# Altium footprint library CGA_Sq_127P.PcbLib: 3 footprints
Each footprint in its own frame and in the unit in brackets; x right, y up, seen from the top. Pads: shape width x height; smd on the part's side, far side on the other; paste and mask are expansions set on the pad; w line width, h text height; cw(c..) or ccw(c..) is an arc to the next point about the centre after c.
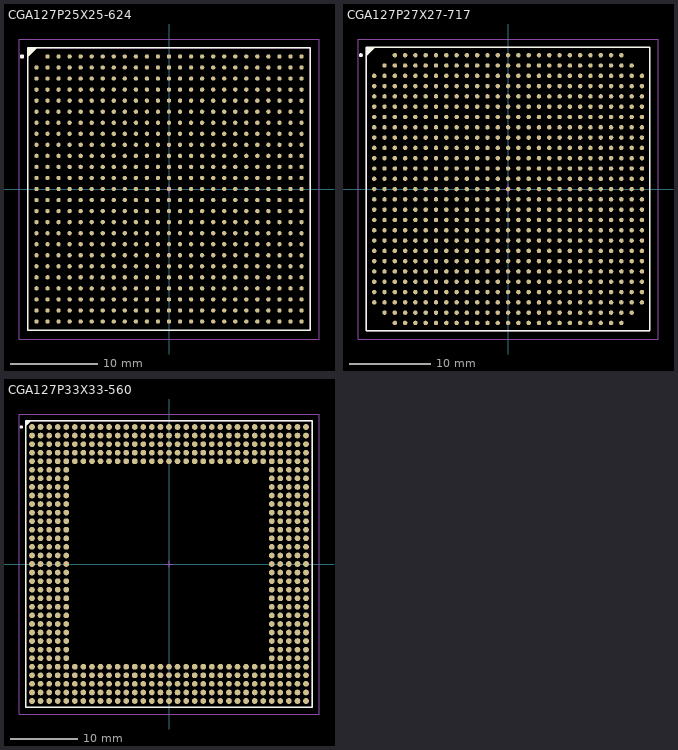
[diagram p0: the footprints below, top view; thin cyan lines are the x and y axes]

## CGA127P25X25-624 [mm] "CGA, 624-Leads, Body 32.5x32.5mm, Pitch 1.27mm"
height 5.37
pads (624):
  round 0.5 smd: A2(-13.97,15.24) A3(-12.7,15.24) A4(-11.43,15.24) A5(-10.16,15.24) A6(-8.89,15.24) A7(-7.62,15.24) A8(-6.35,15.24) A9(-5.08,15.24) A10(-3.81,15.24) A11(-2.54,15.24) A12(-1.27,15.24) A13(0,15.24) A14(1.27,15.24) A15(2.54,15.24) A16(3.81,15.24) A17(5.08,15.24) A18(6.35,15.24) A19(7.62,15.24) A20(8.89,15.24) A21(10.16,15.24) A22(11.43,15.24) A23(12.7,15.24) A24(13.97,15.24) A25(15.24,15.24) AA1(-15.24,-10.16) AA2(-13.97,-10.16) AA3(-12.7,-10.16) AA4(-11.43,-10.16) AA5(-10.16,-10.16) AA6(-8.89,-10.16) AA7(-7.62,-10.16) AA8(-6.35,-10.16) AA9(-5.08,-10.16) AA10(-3.81,-10.16) AA11(-2.54,-10.16) AA12(-1.27,-10.16) AA13(0,-10.16) AA14(1.27,-10.16) AA15(2.54,-10.16) AA16(3.81,-10.16) AA17(5.08,-10.16) AA18(6.35,-10.16) AA19(7.62,-10.16) AA20(8.89,-10.16) AA21(10.16,-10.16) AA22(11.43,-10.16) AA23(12.7,-10.16) AA24(13.97,-10.16) AA25(15.24,-10.16) AB1(-15.24,-11.43) AB2(-13.97,-11.43) AB3(-12.7,-11.43) AB4(-11.43,-11.43) AB5(-10.16,-11.43) AB6(-8.89,-11.43) AB7(-7.62,-11.43) AB8(-6.35,-11.43) AB9(-5.08,-11.43) AB10(-3.81,-11.43) AB11(-2.54,-11.43) AB12(-1.27,-11.43) AB13(0,-11.43) AB14(1.27,-11.43) AB15(2.54,-11.43) AB16(3.81,-11.43) AB17(5.08,-11.43) AB18(6.35,-11.43) AB19(7.62,-11.43) AB20(8.89,-11.43) AB21(10.16,-11.43) AB22(11.43,-11.43) AB23(12.7,-11.43) AB24(13.97,-11.43) AB25(15.24,-11.43) AC1(-15.24,-12.7) AC2(-13.97,-12.7) AC3(-12.7,-12.7) AC4(-11.43,-12.7) AC5(-10.16,-12.7) AC6(-8.89,-12.7) AC7(-7.62,-12.7) AC8(-6.35,-12.7) AC9(-5.08,-12.7) AC10(-3.81,-12.7) AC11(-2.54,-12.7) AC12(-1.27,-12.7) AC13(0,-12.7) AC14(1.27,-12.7) AC15(2.54,-12.7) AC16(3.81,-12.7) AC17(5.08,-12.7) AC18(6.35,-12.7) AC19(7.62,-12.7) AC20(8.89,-12.7) AC21(10.16,-12.7) AC22(11.43,-12.7) AC23(12.7,-12.7) AC24(13.97,-12.7) AC25(15.24,-12.7) AD1(-15.24,-13.97) AD2(-13.97,-13.97) AD3(-12.7,-13.97) AD4(-11.43,-13.97) AD5(-10.16,-13.97) AD6(-8.89,-13.97) AD7(-7.62,-13.97) AD8(-6.35,-13.97) AD9(-5.08,-13.97) AD10(-3.81,-13.97) AD11(-2.54,-13.97) AD12(-1.27,-13.97) AD13(0,-13.97) AD14(1.27,-13.97) AD15(2.54,-13.97) AD16(3.81,-13.97) AD17(5.08,-13.97) AD18(6.35,-13.97) AD19(7.62,-13.97) AD20(8.89,-13.97) AD21(10.16,-13.97) AD22(11.43,-13.97) AD23(12.7,-13.97) AD24(13.97,-13.97) AD25(15.24,-13.97) AE1(-15.24,-15.24) AE2(-13.97,-15.24) AE3(-12.7,-15.24) AE4(-11.43,-15.24) AE5(-10.16,-15.24) AE6(-8.89,-15.24) AE7(-7.62,-15.24) AE8(-6.35,-15.24) AE9(-5.08,-15.24) AE10(-3.81,-15.24) AE11(-2.54,-15.24) AE12(-1.27,-15.24) AE13(0,-15.24) AE14(1.27,-15.24) AE15(2.54,-15.24) AE16(3.81,-15.24) AE17(5.08,-15.24) AE18(6.35,-15.24) AE19(7.62,-15.24) AE20(8.89,-15.24) AE21(10.16,-15.24) AE22(11.43,-15.24) AE23(12.7,-15.24) AE24(13.97,-15.24) AE25(15.24,-15.24) B1(-15.24,13.97) B2(-13.97,13.97) B3(-12.7,13.97) B4(-11.43,13.97) B5(-10.16,13.97) B6(-8.89,13.97) B7(-7.62,13.97) B8(-6.35,13.97) B9(-5.08,13.97) B10(-3.81,13.97) B11(-2.54,13.97) B12(-1.27,13.97) B13(0,13.97) B14(1.27,13.97) B15(2.54,13.97) B16(3.81,13.97) B17(5.08,13.97) B18(6.35,13.97) B19(7.62,13.97) B20(8.89,13.97) B21(10.16,13.97) B22(11.43,13.97) B23(12.7,13.97) B24(13.97,13.97) B25(15.24,13.97) C1(-15.24,12.7) C2(-13.97,12.7) C3(-12.7,12.7) C4(-11.43,12.7) C5(-10.16,12.7) C6(-8.89,12.7) C7(-7.62,12.7) C8(-6.35,12.7) C9(-5.08,12.7) C10(-3.81,12.7) C11(-2.54,12.7) C12(-1.27,12.7) C13(0,12.7) C14(1.27,12.7) C15(2.54,12.7) C16(3.81,12.7) C17(5.08,12.7) C18(6.35,12.7) C19(7.62,12.7) C20(8.89,12.7) C21(10.16,12.7) C22(11.43,12.7) C23(12.7,12.7) C24(13.97,12.7) C25(15.24,12.7) D1(-15.24,11.43) D2(-13.97,11.43) D3(-12.7,11.43) D4(-11.43,11.43) D5(-10.16,11.43) D6(-8.89,11.43) D7(-7.62,11.43) D8(-6.35,11.43) D9(-5.08,11.43) D10(-3.81,11.43) D11(-2.54,11.43) D12(-1.27,11.43) D13(0,11.43) D14(1.27,11.43) D15(2.54,11.43) D16(3.81,11.43) D17(5.08,11.43) D18(6.35,11.43) D19(7.62,11.43) D20(8.89,11.43) D21(10.16,11.43) D22(11.43,11.43) D23(12.7,11.43) D24(13.97,11.43) D25(15.24,11.43) E1(-15.24,10.16) E2(-13.97,10.16) E3(-12.7,10.16) E4(-11.43,10.16) E5(-10.16,10.16) E6(-8.89,10.16) E7(-7.62,10.16) E8(-6.35,10.16) E9(-5.08,10.16) E10(-3.81,10.16) E11(-2.54,10.16) E12(-1.27,10.16) E13(0,10.16) E14(1.27,10.16) E15(2.54,10.16) E16(3.81,10.16) E17(5.08,10.16) E18(6.35,10.16) E19(7.62,10.16) E20(8.89,10.16) E21(10.16,10.16) E22(11.43,10.16) E23(12.7,10.16) E24(13.97,10.16) E25(15.24,10.16) F1(-15.24,8.89) F2(-13.97,8.89) F3(-12.7,8.89) F4(-11.43,8.89) F5(-10.16,8.89) F6(-8.89,8.89) F7(-7.62,8.89) F8(-6.35,8.89) F9(-5.08,8.89) F10(-3.81,8.89) F11(-2.54,8.89) F12(-1.27,8.89) F13(0,8.89) F14(1.27,8.89) F15(2.54,8.89) F16(3.81,8.89) F17(5.08,8.89) F18(6.35,8.89) F19(7.62,8.89) F20(8.89,8.89) F21(10.16,8.89) F22(11.43,8.89) F23(12.7,8.89) F24(13.97,8.89) F25(15.24,8.89) G1(-15.24,7.62) G2(-13.97,7.62) G3(-12.7,7.62) G4(-11.43,7.62) G5(-10.16,7.62) G6(-8.89,7.62) G7(-7.62,7.62) G8(-6.35,7.62) G9(-5.08,7.62) G10(-3.81,7.62) G11(-2.54,7.62) G12(-1.27,7.62) G13(0,7.62) G14(1.27,7.62) G15(2.54,7.62) G16(3.81,7.62) G17(5.08,7.62) G18(6.35,7.62) G19(7.62,7.62) G20(8.89,7.62) G21(10.16,7.62) G22(11.43,7.62) G23(12.7,7.62) G24(13.97,7.62) G25(15.24,7.62) H1(-15.24,6.35) H2(-13.97,6.35) H3(-12.7,6.35) H4(-11.43,6.35) H5(-10.16,6.35) H6(-8.89,6.35) H7(-7.62,6.35) H8(-6.35,6.35) H9(-5.08,6.35) H10(-3.81,6.35) H11(-2.54,6.35) H12(-1.27,6.35) H13(0,6.35) H14(1.27,6.35) H15(2.54,6.35) H16(3.81,6.35) H17(5.08,6.35) H18(6.35,6.35) H19(7.62,6.35) H20(8.89,6.35) H21(10.16,6.35) H22(11.43,6.35) H23(12.7,6.35) H24(13.97,6.35) H25(15.24,6.35) J1(-15.24,5.08) J2(-13.97,5.08) J3(-12.7,5.08) J4(-11.43,5.08) J5(-10.16,5.08) J6(-8.89,5.08) J7(-7.62,5.08) J8(-6.35,5.08) J9(-5.08,5.08) J10(-3.81,5.08) J11(-2.54,5.08) J12(-1.27,5.08) J13(0,5.08) J14(1.27,5.08) J15(2.54,5.08) J16(3.81,5.08) J17(5.08,5.08) J18(6.35,5.08) J19(7.62,5.08) J20(8.89,5.08) J21(10.16,5.08) J22(11.43,5.08) J23(12.7,5.08) J24(13.97,5.08) J25(15.24,5.08) K1(-15.24,3.81) K2(-13.97,3.81) K3(-12.7,3.81) K4(-11.43,3.81) K5(-10.16,3.81) K6(-8.89,3.81) K7(-7.62,3.81) K8(-6.35,3.81) K9(-5.08,3.81) K10(-3.81,3.81) K11(-2.54,3.81) K12(-1.27,3.81) K13(0,3.81) K14(1.27,3.81) K15(2.54,3.81) K16(3.81,3.81) K17(5.08,3.81) K18(6.35,3.81) K19(7.62,3.81) K20(8.89,3.81) K21(10.16,3.81) K22(11.43,3.81) K23(12.7,3.81) K24(13.97,3.81) K25(15.24,3.81) L1(-15.24,2.54) L2(-13.97,2.54) L3(-12.7,2.54) L4(-11.43,2.54) L5(-10.16,2.54) L6(-8.89,2.54) L7(-7.62,2.54) L8(-6.35,2.54) L9(-5.08,2.54) L10(-3.81,2.54) L11(-2.54,2.54) L12(-1.27,2.54) L13(0,2.54) L14(1.27,2.54) L15(2.54,2.54) L16(3.81,2.54) L17(5.08,2.54) L18(6.35,2.54) L19(7.62,2.54) L20(8.89,2.54) L21(10.16,2.54) L22(11.43,2.54) L23(12.7,2.54) L24(13.97,2.54) L25(15.24,2.54) M1(-15.24,1.27) M2(-13.97,1.27) M3(-12.7,1.27) M4(-11.43,1.27) M5(-10.16,1.27) M6(-8.89,1.27) M7(-7.62,1.27) M8(-6.35,1.27) M9(-5.08,1.27) M10(-3.81,1.27) M11(-2.54,1.27) M12(-1.27,1.27) M13(0,1.27) M14(1.27,1.27) M15(2.54,1.27) M16(3.81,1.27) M17(5.08,1.27) M18(6.35,1.27) M19(7.62,1.27) M20(8.89,1.27) M21(10.16,1.27) M22(11.43,1.27) M23(12.7,1.27) M24(13.97,1.27) M25(15.24,1.27) N1(-15.24,0) N2(-13.97,0) N3(-12.7,0) N4(-11.43,0) N5(-10.16,0) N6(-8.89,0) N7(-7.62,0) N8(-6.35,0) N9(-5.08,0) N10(-3.81,0) N11(-2.54,0) N12(-1.27,0) N13(0,0) N14(1.27,0) N15(2.54,0) N16(3.81,0) N17(5.08,0) N18(6.35,0) N19(7.62,0) N20(8.89,0) N21(10.16,0) N22(11.43,0) N23(12.7,0) N24(13.97,0) N25(15.24,0) P1(-15.24,-1.27) P2(-13.97,-1.27) P3(-12.7,-1.27) P4(-11.43,-1.27) P5(-10.16,-1.27) P6(-8.89,-1.27) P7(-7.62,-1.27) P8(-6.35,-1.27) P9(-5.08,-1.27) P10(-3.81,-1.27) P11(-2.54,-1.27) P12(-1.27,-1.27) P13(0,-1.27) P14(1.27,-1.27) P15(2.54,-1.27) P16(3.81,-1.27) P17(5.08,-1.27) P18(6.35,-1.27) P19(7.62,-1.27) P20(8.89,-1.27) P21(10.16,-1.27) P22(11.43,-1.27) P23(12.7,-1.27) P24(13.97,-1.27) P25(15.24,-1.27) R1(-15.24,-2.54) R2(-13.97,-2.54) R3(-12.7,-2.54) R4(-11.43,-2.54) R5(-10.16,-2.54) R6(-8.89,-2.54) R7(-7.62,-2.54) R8(-6.35,-2.54) R9(-5.08,-2.54) R10(-3.81,-2.54) R11(-2.54,-2.54) R12(-1.27,-2.54) R13(0,-2.54) R14(1.27,-2.54) R15(2.54,-2.54) R16(3.81,-2.54) R17(5.08,-2.54) R18(6.35,-2.54) R19(7.62,-2.54) R20(8.89,-2.54) R21(10.16,-2.54) R22(11.43,-2.54) R23(12.7,-2.54) R24(13.97,-2.54) R25(15.24,-2.54) T1(-15.24,-3.81) T2(-13.97,-3.81) T3(-12.7,-3.81) T4(-11.43,-3.81) T5(-10.16,-3.81) T6(-8.89,-3.81) T7(-7.62,-3.81) T8(-6.35,-3.81) T9(-5.08,-3.81) T10(-3.81,-3.81) T11(-2.54,-3.81) T12(-1.27,-3.81) T13(0,-3.81) T14(1.27,-3.81) T15(2.54,-3.81) T16(3.81,-3.81) T17(5.08,-3.81) T18(6.35,-3.81) T19(7.62,-3.81) T20(8.89,-3.81) T21(10.16,-3.81) T22(11.43,-3.81) T23(12.7,-3.81) T24(13.97,-3.81) T25(15.24,-3.81) U1(-15.24,-5.08) U2(-13.97,-5.08) U3(-12.7,-5.08) U4(-11.43,-5.08) U5(-10.16,-5.08) U6(-8.89,-5.08) U7(-7.62,-5.08) U8(-6.35,-5.08) U9(-5.08,-5.08) U10(-3.81,-5.08) U11(-2.54,-5.08) U12(-1.27,-5.08) U13(0,-5.08) U14(1.27,-5.08) U15(2.54,-5.08) U16(3.81,-5.08) U17(5.08,-5.08) U18(6.35,-5.08) U19(7.62,-5.08) U20(8.89,-5.08) U21(10.16,-5.08) U22(11.43,-5.08) U23(12.7,-5.08) U24(13.97,-5.08) U25(15.24,-5.08) V1(-15.24,-6.35) V2(-13.97,-6.35) V3(-12.7,-6.35) V4(-11.43,-6.35) V5(-10.16,-6.35) V6(-8.89,-6.35) V7(-7.62,-6.35) V8(-6.35,-6.35) V9(-5.08,-6.35) V10(-3.81,-6.35) V11(-2.54,-6.35) V12(-1.27,-6.35) V13(0,-6.35) V14(1.27,-6.35) V15(2.54,-6.35) V16(3.81,-6.35) V17(5.08,-6.35) V18(6.35,-6.35) V19(7.62,-6.35) V20(8.89,-6.35) V21(10.16,-6.35) V22(11.43,-6.35) V23(12.7,-6.35) V24(13.97,-6.35) V25(15.24,-6.35) W1(-15.24,-7.62) W2(-13.97,-7.62) W3(-12.7,-7.62) W4(-11.43,-7.62) W5(-10.16,-7.62) W6(-8.89,-7.62) W7(-7.62,-7.62) W8(-6.35,-7.62) W9(-5.08,-7.62) W10(-3.81,-7.62) W11(-2.54,-7.62) W12(-1.27,-7.62) W13(0,-7.62) W14(1.27,-7.62) W15(2.54,-7.62) W16(3.81,-7.62) W17(5.08,-7.62) W18(6.35,-7.62) W19(7.62,-7.62) W20(8.89,-7.62) W21(10.16,-7.62) W22(11.43,-7.62) W23(12.7,-7.62) W24(13.97,-7.62) W25(15.24,-7.62) Y1(-15.24,-8.89) Y2(-13.97,-8.89) Y3(-12.7,-8.89) Y4(-11.43,-8.89) Y5(-10.16,-8.89) Y6(-8.89,-8.89) Y7(-7.62,-8.89) Y8(-6.35,-8.89) Y9(-5.08,-8.89) Y10(-3.81,-8.89) Y11(-2.54,-8.89) Y12(-1.27,-8.89) Y13(0,-8.89) Y14(1.27,-8.89) Y15(2.54,-8.89) Y16(3.81,-8.89) Y17(5.08,-8.89) Y18(6.35,-8.89) Y19(7.62,-8.89) Y20(8.89,-8.89) Y21(10.16,-8.89) Y22(11.43,-8.89) Y23(12.7,-8.89) Y24(13.97,-8.89) Y25(15.24,-8.89)
Top Overlay:
  circle w0.25: c-16.9,15.24 r0.125
  region: -15.25,16.25 -16.25,15.25 -16.25,16.25
  lines w0.2: -16.25,15.25 -15.25,16.25 ; -16.25,-16.25 16.25,-16.25 16.25,16.25 -16.25,16.25 -16.25,-16.25
Mechanical 13:
  lines w0.1: -16.25,-16.25 16.25,-16.25 16.25,16.25 -16.25,16.25 -16.25,-16.25
Mechanical 15:
  lines w0.1: -0.5,0 0.5,0 ; 0,-0.5 0,0.5 ; -17.25,-17.25 17.25,-17.25 17.25,17.25 -17.25,17.25 -17.25,-17.25
3D body: height 5.37, standoff 0, extent -16.25,-16.25 16.25,16.25

## CGA127P27X27-717 [mm] "729-Pin Ceramic Column Grid Array 1.27 mm Pitch"
height 5.5
pads (717):
  round 0.55 smd: A3(-13.97,16.51) A4(-12.7,16.51) A5(-11.43,16.51) A6(-10.16,16.51) A7(-8.89,16.51) A8(-7.62,16.51) A9(-6.35,16.51) A10(-5.08,16.51) A11(-3.81,16.51) A12(-2.54,16.51) A13(-1.27,16.51) A14(0,16.51) A15(1.27,16.51) A16(2.54,16.51) A17(3.81,16.51) A18(5.08,16.51) A19(6.35,16.51) A20(7.62,16.51) A21(8.89,16.51) A22(10.16,16.51) A23(11.43,16.51) A24(12.7,16.51) A25(13.97,16.51) AA1(-16.51,-8.89) AA2(-15.24,-8.89) AA3(-13.97,-8.89) AA4(-12.7,-8.89) AA5(-11.43,-8.89) AA6(-10.16,-8.89) AA7(-8.89,-8.89) AA8(-7.62,-8.89) AA9(-6.35,-8.89) AA10(-5.08,-8.89) AA11(-3.81,-8.89) AA12(-2.54,-8.89) AA13(-1.27,-8.89) AA14(0,-8.89) AA15(1.27,-8.89) AA16(2.54,-8.89) AA17(3.81,-8.89) AA18(5.08,-8.89) AA19(6.35,-8.89) AA20(7.62,-8.89) AA21(8.89,-8.89) AA22(10.16,-8.89) AA23(11.43,-8.89) AA24(12.7,-8.89) AA25(13.97,-8.89) AA26(15.24,-8.89) AA27(16.51,-8.89) AB1(-16.51,-10.16) AB2(-15.24,-10.16) AB3(-13.97,-10.16) AB4(-12.7,-10.16) AB5(-11.43,-10.16) AB6(-10.16,-10.16) AB7(-8.89,-10.16) AB8(-7.62,-10.16) AB9(-6.35,-10.16) AB10(-5.08,-10.16) AB11(-3.81,-10.16) AB12(-2.54,-10.16) AB13(-1.27,-10.16) AB14(0,-10.16) AB15(1.27,-10.16) AB16(2.54,-10.16) AB17(3.81,-10.16) AB18(5.08,-10.16) AB19(6.35,-10.16) AB20(7.62,-10.16) AB21(8.89,-10.16) AB22(10.16,-10.16) AB23(11.43,-10.16) AB24(12.7,-10.16) AB25(13.97,-10.16) AB26(15.24,-10.16) AB27(16.51,-10.16) AC1(-16.51,-11.43) AC2(-15.24,-11.43) AC3(-13.97,-11.43) AC4(-12.7,-11.43) AC5(-11.43,-11.43) AC6(-10.16,-11.43) AC7(-8.89,-11.43) AC8(-7.62,-11.43) AC9(-6.35,-11.43) AC10(-5.08,-11.43) AC11(-3.81,-11.43) AC12(-2.54,-11.43) AC13(-1.27,-11.43) AC14(0,-11.43) AC15(1.27,-11.43) AC16(2.54,-11.43) AC17(3.81,-11.43) AC18(5.08,-11.43) AC19(6.35,-11.43) AC20(7.62,-11.43) AC21(8.89,-11.43) AC22(10.16,-11.43) AC23(11.43,-11.43) AC24(12.7,-11.43) AC25(13.97,-11.43) AC26(15.24,-11.43) AC27(16.51,-11.43) AD1(-16.51,-12.7) AD2(-15.24,-12.7) AD3(-13.97,-12.7) AD4(-12.7,-12.7) AD5(-11.43,-12.7) AD6(-10.16,-12.7) AD7(-8.89,-12.7) AD8(-7.62,-12.7) AD9(-6.35,-12.7) AD10(-5.08,-12.7) AD11(-3.81,-12.7) AD12(-2.54,-12.7) AD13(-1.27,-12.7) AD14(0,-12.7) AD15(1.27,-12.7) AD16(2.54,-12.7) AD17(3.81,-12.7) AD18(5.08,-12.7) AD19(6.35,-12.7) AD20(7.62,-12.7) AD21(8.89,-12.7) AD22(10.16,-12.7) AD23(11.43,-12.7) AD24(12.7,-12.7) AD25(13.97,-12.7) AD26(15.24,-12.7) AD27(16.51,-12.7) AE1(-16.51,-13.97) AE2(-15.24,-13.97) AE3(-13.97,-13.97) AE4(-12.7,-13.97) AE5(-11.43,-13.97) AE6(-10.16,-13.97) AE7(-8.89,-13.97) AE8(-7.62,-13.97) AE9(-6.35,-13.97) AE10(-5.08,-13.97) AE11(-3.81,-13.97) AE12(-2.54,-13.97) AE13(-1.27,-13.97) AE14(0,-13.97) AE15(1.27,-13.97) AE16(2.54,-13.97) AE17(3.81,-13.97) AE18(5.08,-13.97) AE19(6.35,-13.97) AE20(7.62,-13.97) AE21(8.89,-13.97) AE22(10.16,-13.97) AE23(11.43,-13.97) AE24(12.7,-13.97) AE25(13.97,-13.97) AE26(15.24,-13.97) AE27(16.51,-13.97) AF2(-15.24,-15.24) AF3(-13.97,-15.24) AF4(-12.7,-15.24) AF5(-11.43,-15.24) AF6(-10.16,-15.24) AF7(-8.89,-15.24) AF8(-7.62,-15.24) AF9(-6.35,-15.24) AF10(-5.08,-15.24) AF11(-3.81,-15.24) AF12(-2.54,-15.24) AF13(-1.27,-15.24) AF14(0,-15.24) AF15(1.27,-15.24) AF16(2.54,-15.24) AF17(3.81,-15.24) AF18(5.08,-15.24) AF19(6.35,-15.24) AF20(7.62,-15.24) AF21(8.89,-15.24) AF22(10.16,-15.24) AF23(11.43,-15.24) AF24(12.7,-15.24) AF25(13.97,-15.24) AF26(15.24,-15.24) AG3(-13.97,-16.51) AG4(-12.7,-16.51) AG5(-11.43,-16.51) AG6(-10.16,-16.51) AG7(-8.89,-16.51) AG8(-7.62,-16.51) AG9(-6.35,-16.51) AG10(-5.08,-16.51) AG11(-3.81,-16.51) AG12(-2.54,-16.51) AG13(-1.27,-16.51) AG14(0,-16.51) AG15(1.27,-16.51) AG16(2.54,-16.51) AG17(3.81,-16.51) AG18(5.08,-16.51) AG19(6.35,-16.51) AG20(7.62,-16.51) AG21(8.89,-16.51) AG22(10.16,-16.51) AG23(11.43,-16.51) AG24(12.7,-16.51) AG25(13.97,-16.51) B2(-15.24,15.24) B3(-13.97,15.24) B4(-12.7,15.24) B5(-11.43,15.24) B6(-10.16,15.24) B7(-8.89,15.24) B8(-7.62,15.24) B9(-6.35,15.24) B10(-5.08,15.24) B11(-3.81,15.24) B12(-2.54,15.24) B13(-1.27,15.24) B14(0,15.24) B15(1.27,15.24) B16(2.54,15.24) B17(3.81,15.24) B18(5.08,15.24) B19(6.35,15.24) B20(7.62,15.24) B21(8.89,15.24) B22(10.16,15.24) B23(11.43,15.24) B24(12.7,15.24) B25(13.97,15.24) B26(15.24,15.24) C1(-16.51,13.97) C2(-15.24,13.97) C3(-13.97,13.97) C4(-12.7,13.97) C5(-11.43,13.97) C6(-10.16,13.97) C7(-8.89,13.97) C8(-7.62,13.97) C9(-6.35,13.97) C10(-5.08,13.97) C11(-3.81,13.97) C12(-2.54,13.97) C13(-1.27,13.97) C14(0,13.97) C15(1.27,13.97) C16(2.54,13.97) C17(3.81,13.97) C18(5.08,13.97) C19(6.35,13.97) C20(7.62,13.97) C21(8.89,13.97) C22(10.16,13.97) C23(11.43,13.97) C24(12.7,13.97) C25(13.97,13.97) C26(15.24,13.97) C27(16.51,13.97) D1(-16.51,12.7) D2(-15.24,12.7) D3(-13.97,12.7) D4(-12.7,12.7) D5(-11.43,12.7) D6(-10.16,12.7) D7(-8.89,12.7) D8(-7.62,12.7) D9(-6.35,12.7) D10(-5.08,12.7) D11(-3.81,12.7) D12(-2.54,12.7) D13(-1.27,12.7) D14(0,12.7) D15(1.27,12.7) D16(2.54,12.7) D17(3.81,12.7) D18(5.08,12.7) D19(6.35,12.7) D20(7.62,12.7) D21(8.89,12.7) D22(10.16,12.7) D23(11.43,12.7) D24(12.7,12.7) D25(13.97,12.7) D26(15.24,12.7) D27(16.51,12.7) E1(-16.51,11.43) E2(-15.24,11.43) E3(-13.97,11.43) E4(-12.7,11.43) E5(-11.43,11.43) E6(-10.16,11.43) E7(-8.89,11.43) E8(-7.62,11.43) E9(-6.35,11.43) E10(-5.08,11.43) E11(-3.81,11.43) E12(-2.54,11.43) E13(-1.27,11.43) E14(0,11.43) E15(1.27,11.43) E16(2.54,11.43) E17(3.81,11.43) E18(5.08,11.43) E19(6.35,11.43) E20(7.62,11.43) E21(8.89,11.43) E22(10.16,11.43) E23(11.43,11.43) E24(12.7,11.43) E25(13.97,11.43) E26(15.24,11.43) E27(16.51,11.43) F1(-16.51,10.16) F2(-15.24,10.16) F3(-13.97,10.16) F4(-12.7,10.16) F5(-11.43,10.16) F6(-10.16,10.16) F7(-8.89,10.16) F8(-7.62,10.16) F9(-6.35,10.16) F10(-5.08,10.16) F11(-3.81,10.16) F12(-2.54,10.16) F13(-1.27,10.16) F14(0,10.16) F15(1.27,10.16) F16(2.54,10.16) F17(3.81,10.16) F18(5.08,10.16) F19(6.35,10.16) F20(7.62,10.16) F21(8.89,10.16) F22(10.16,10.16) F23(11.43,10.16) F24(12.7,10.16) F25(13.97,10.16) F26(15.24,10.16) F27(16.51,10.16) G1(-16.51,8.89) G2(-15.24,8.89) G3(-13.97,8.89) G4(-12.7,8.89) G5(-11.43,8.89) G6(-10.16,8.89) G7(-8.89,8.89) G8(-7.62,8.89) G9(-6.35,8.89) G10(-5.08,8.89) G11(-3.81,8.89) G12(-2.54,8.89) G13(-1.27,8.89) G14(0,8.89) G15(1.27,8.89) G16(2.54,8.89) G17(3.81,8.89) G18(5.08,8.89) G19(6.35,8.89) G20(7.62,8.89) G21(8.89,8.89) G22(10.16,8.89) G23(11.43,8.89) G24(12.7,8.89) G25(13.97,8.89) G26(15.24,8.89) G27(16.51,8.89) H1(-16.51,7.62) H2(-15.24,7.62) H3(-13.97,7.62) H4(-12.7,7.62) H5(-11.43,7.62) H6(-10.16,7.62) H7(-8.89,7.62) H8(-7.62,7.62) H9(-6.35,7.62) H10(-5.08,7.62) H11(-3.81,7.62) H12(-2.54,7.62) H13(-1.27,7.62) H14(0,7.62) H15(1.27,7.62) H16(2.54,7.62) H17(3.81,7.62) H18(5.08,7.62) H19(6.35,7.62) H20(7.62,7.62) H21(8.89,7.62) H22(10.16,7.62) H23(11.43,7.62) H24(12.7,7.62) H25(13.97,7.62) H26(15.24,7.62) H27(16.51,7.62) J1(-16.51,6.35) J2(-15.24,6.35) J3(-13.97,6.35) J4(-12.7,6.35) J5(-11.43,6.35) J6(-10.16,6.35) J7(-8.89,6.35) J8(-7.62,6.35) J9(-6.35,6.35) J10(-5.08,6.35) J11(-3.81,6.35) J12(-2.54,6.35) J13(-1.27,6.35) J14(0,6.35) J15(1.27,6.35) J16(2.54,6.35) J17(3.81,6.35) J18(5.08,6.35) J19(6.35,6.35) J20(7.62,6.35) J21(8.89,6.35) J22(10.16,6.35) J23(11.43,6.35) J24(12.7,6.35) J25(13.97,6.35) J26(15.24,6.35) J27(16.51,6.35) K1(-16.51,5.08) K2(-15.24,5.08) K3(-13.97,5.08) K4(-12.7,5.08) K5(-11.43,5.08) K6(-10.16,5.08) K7(-8.89,5.08) K8(-7.62,5.08) K9(-6.35,5.08) K10(-5.08,5.08) K11(-3.81,5.08) K12(-2.54,5.08) K13(-1.27,5.08) K14(0,5.08) K15(1.27,5.08) K16(2.54,5.08) K17(3.81,5.08) K18(5.08,5.08) K19(6.35,5.08) K20(7.62,5.08) K21(8.89,5.08) K22(10.16,5.08) K23(11.43,5.08) K24(12.7,5.08) K25(13.97,5.08) K26(15.24,5.08) K27(16.51,5.08) L1(-16.51,3.81) L2(-15.24,3.81) L3(-13.97,3.81) L4(-12.7,3.81) L5(-11.43,3.81) L6(-10.16,3.81) L7(-8.89,3.81) L8(-7.62,3.81) L9(-6.35,3.81) L10(-5.08,3.81) L11(-3.81,3.81) L12(-2.54,3.81) L13(-1.27,3.81) L14(0,3.81) L15(1.27,3.81) L16(2.54,3.81) L17(3.81,3.81) L18(5.08,3.81) L19(6.35,3.81) L20(7.62,3.81) L21(8.89,3.81) L22(10.16,3.81) L23(11.43,3.81) L24(12.7,3.81) L25(13.97,3.81) L26(15.24,3.81) L27(16.51,3.81) M1(-16.51,2.54) M2(-15.24,2.54) M3(-13.97,2.54) M4(-12.7,2.54) M5(-11.43,2.54) M6(-10.16,2.54) M7(-8.89,2.54) M8(-7.62,2.54) M9(-6.35,2.54) M10(-5.08,2.54) M11(-3.81,2.54) M12(-2.54,2.54) M13(-1.27,2.54) M14(0,2.54) M15(1.27,2.54) M16(2.54,2.54) M17(3.81,2.54) M18(5.08,2.54) M19(6.35,2.54) M20(7.62,2.54) M21(8.89,2.54) M22(10.16,2.54) M23(11.43,2.54) M24(12.7,2.54) M25(13.97,2.54) M26(15.24,2.54) M27(16.51,2.54) N1(-16.51,1.27) N2(-15.24,1.27) N3(-13.97,1.27) N4(-12.7,1.27) N5(-11.43,1.27) N6(-10.16,1.27) N7(-8.89,1.27) N8(-7.62,1.27) N9(-6.35,1.27) N10(-5.08,1.27) N11(-3.81,1.27) N12(-2.54,1.27) N13(-1.27,1.27) N14(0,1.27) N15(1.27,1.27) N16(2.54,1.27) N17(3.81,1.27) N18(5.08,1.27) N19(6.35,1.27) N20(7.62,1.27) N21(8.89,1.27) N22(10.16,1.27) N23(11.43,1.27) N24(12.7,1.27) N25(13.97,1.27) N26(15.24,1.27) N27(16.51,1.27) P1(-16.51,0) P2(-15.24,0) P3(-13.97,0) P4(-12.7,0) P5(-11.43,0) P6(-10.16,0) P7(-8.89,0) P8(-7.62,0) P9(-6.35,0) P10(-5.08,0) P11(-3.81,0) P12(-2.54,0) P13(-1.27,0) P14(0,0) P15(1.27,0) P16(2.54,0) P17(3.81,0) P18(5.08,0) P19(6.35,0) P20(7.62,0) P21(8.89,0) P22(10.16,0) P23(11.43,0) P24(12.7,0) P25(13.97,0) P26(15.24,0) P27(16.51,0) R1(-16.51,-1.27) R2(-15.24,-1.27) R3(-13.97,-1.27) R4(-12.7,-1.27) R5(-11.43,-1.27) R6(-10.16,-1.27) R7(-8.89,-1.27) R8(-7.62,-1.27) R9(-6.35,-1.27) R10(-5.08,-1.27) R11(-3.81,-1.27) R12(-2.54,-1.27) R13(-1.27,-1.27) R14(0,-1.27) R15(1.27,-1.27) R16(2.54,-1.27) R17(3.81,-1.27) R18(5.08,-1.27) R19(6.35,-1.27) R20(7.62,-1.27) R21(8.89,-1.27) R22(10.16,-1.27) R23(11.43,-1.27) R24(12.7,-1.27) R25(13.97,-1.27) R26(15.24,-1.27) R27(16.51,-1.27) T1(-16.51,-2.54) T2(-15.24,-2.54) T3(-13.97,-2.54) T4(-12.7,-2.54) T5(-11.43,-2.54) T6(-10.16,-2.54) T7(-8.89,-2.54) T8(-7.62,-2.54) T9(-6.35,-2.54) T10(-5.08,-2.54) T11(-3.81,-2.54) T12(-2.54,-2.54) T13(-1.27,-2.54) T14(0,-2.54) T15(1.27,-2.54) T16(2.54,-2.54) T17(3.81,-2.54) T18(5.08,-2.54) T19(6.35,-2.54) T20(7.62,-2.54) T21(8.89,-2.54) T22(10.16,-2.54) T23(11.43,-2.54) T24(12.7,-2.54) T25(13.97,-2.54) T26(15.24,-2.54) T27(16.51,-2.54) U1(-16.51,-3.81) U2(-15.24,-3.81) U3(-13.97,-3.81) U4(-12.7,-3.81) U5(-11.43,-3.81) U6(-10.16,-3.81) U7(-8.89,-3.81) U8(-7.62,-3.81) U9(-6.35,-3.81) U10(-5.08,-3.81) U11(-3.81,-3.81) U12(-2.54,-3.81) U13(-1.27,-3.81) U14(0,-3.81) U15(1.27,-3.81) U16(2.54,-3.81) U17(3.81,-3.81) U18(5.08,-3.81) U19(6.35,-3.81) U20(7.62,-3.81) U21(8.89,-3.81) U22(10.16,-3.81) U23(11.43,-3.81) U24(12.7,-3.81) U25(13.97,-3.81) U26(15.24,-3.81) U27(16.51,-3.81) V1(-16.51,-5.08) V2(-15.24,-5.08) V3(-13.97,-5.08) V4(-12.7,-5.08) V5(-11.43,-5.08) V6(-10.16,-5.08) V7(-8.89,-5.08) V8(-7.62,-5.08) V9(-6.35,-5.08) V10(-5.08,-5.08) V11(-3.81,-5.08) V12(-2.54,-5.08) V13(-1.27,-5.08) V14(0,-5.08) V15(1.27,-5.08) V16(2.54,-5.08) V17(3.81,-5.08) V18(5.08,-5.08) V19(6.35,-5.08) V20(7.62,-5.08) V21(8.89,-5.08) V22(10.16,-5.08) V23(11.43,-5.08) V24(12.7,-5.08) V25(13.97,-5.08) V26(15.24,-5.08) V27(16.51,-5.08) W1(-16.51,-6.35) W2(-15.24,-6.35) W3(-13.97,-6.35) W4(-12.7,-6.35) W5(-11.43,-6.35) W6(-10.16,-6.35) W7(-8.89,-6.35) W8(-7.62,-6.35) W9(-6.35,-6.35) W10(-5.08,-6.35) W11(-3.81,-6.35) W12(-2.54,-6.35) W13(-1.27,-6.35) W14(0,-6.35) W15(1.27,-6.35) W16(2.54,-6.35) W17(3.81,-6.35) W18(5.08,-6.35) W19(6.35,-6.35) W20(7.62,-6.35) W21(8.89,-6.35) W22(10.16,-6.35) W23(11.43,-6.35) W24(12.7,-6.35) W25(13.97,-6.35) W26(15.24,-6.35) W27(16.51,-6.35) Y1(-16.51,-7.62) Y2(-15.24,-7.62) Y3(-13.97,-7.62) Y4(-12.7,-7.62) Y5(-11.43,-7.62) Y6(-10.16,-7.62) Y7(-8.89,-7.62) Y8(-7.62,-7.62) Y9(-6.35,-7.62) Y10(-5.08,-7.62) Y11(-3.81,-7.62) Y12(-2.54,-7.62) Y13(-1.27,-7.62) Y14(0,-7.62) Y15(1.27,-7.62) Y16(2.54,-7.62) Y17(3.81,-7.62) Y18(5.08,-7.62) Y19(6.35,-7.62) Y20(7.62,-7.62) Y21(8.89,-7.62) Y22(10.16,-7.62) Y23(11.43,-7.62) Y24(12.7,-7.62) Y25(13.97,-7.62) Y26(15.24,-7.62) Y27(16.51,-7.62)
Top Overlay:
  circle w0.25: c-18.16,16.51 r0.125
  region: -16.51,17.51 -17.51,16.51 -17.51,17.51
  lines w0.2: -17.51,16.51 -16.51,17.51 ; -17.51,-17.49 -17.51,17.51 17.49,17.51 17.49,-17.49 -17.51,-17.49
Mechanical 13:
  lines w0.1: -17.51,-17.49 -17.51,17.51 17.49,17.51 17.49,-17.49 -17.51,-17.49
Mechanical 15:
  lines w0.1: -0.51,0.01 0.49,0.01 ; -0.01,-0.49 -0.01,0.51 ; -18.51,-18.49 -18.51,18.51 18.49,18.51 18.49,-18.49 -18.51,-18.49
3D body: height 5.5, standoff 0, extent -17.51,-17.49 17.49,17.51

## CGA127P33X33-560 [mm] "1089-Pin Ceramic Column Grid Array 1.27 mm Pitch"
height 5.35
pads (560):
  round 0.85 smd: A1(-20.32,20.32) A2(-19.05,20.32) A3(-17.78,20.32) A4(-16.51,20.32) A5(-15.24,20.32) A6(-13.97,20.32) A7(-12.7,20.32) A8(-11.43,20.32) A9(-10.16,20.32) A10(-8.89,20.32) A11(-7.62,20.32) A12(-6.35,20.32) A13(-5.08,20.32) A14(-3.81,20.32) A15(-2.54,20.32) A16(-1.27,20.32) A17(0,20.32) A18(1.27,20.32) A19(2.54,20.32) A20(3.81,20.32) A21(5.08,20.32) A22(6.35,20.32) A23(7.62,20.32) A24(8.89,20.32) A25(10.16,20.32) A26(11.43,20.32) A27(12.7,20.32) A28(13.97,20.32) A29(15.24,20.32) A30(16.51,20.32) A31(17.78,20.32) A32(19.05,20.32) A33(20.32,20.32) AA1(-20.32,-5.08) AA2(-19.05,-5.08) AA3(-17.78,-5.08) AA4(-16.51,-5.08) AA5(-15.24,-5.08) AA29(15.24,-5.08) AA30(16.51,-5.08) AA31(17.78,-5.08) AA32(19.05,-5.08) AA33(20.32,-5.08) AB1(-20.32,-6.35) AB2(-19.05,-6.35) AB3(-17.78,-6.35) AB4(-16.51,-6.35) AB5(-15.24,-6.35) AB29(15.24,-6.35) AB30(16.51,-6.35) AB31(17.78,-6.35) AB32(19.05,-6.35) AB33(20.32,-6.35) AC1(-20.32,-7.62) AC2(-19.05,-7.62) AC3(-17.78,-7.62) AC4(-16.51,-7.62) AC5(-15.24,-7.62) AC29(15.24,-7.62) AC30(16.51,-7.62) AC31(17.78,-7.62) AC32(19.05,-7.62) AC33(20.32,-7.62) AD1(-20.32,-8.89) AD2(-19.05,-8.89) AD3(-17.78,-8.89) AD4(-16.51,-8.89) AD5(-15.24,-8.89) AD29(15.24,-8.89) AD30(16.51,-8.89) AD31(17.78,-8.89) AD32(19.05,-8.89) AD33(20.32,-8.89) AE1(-20.32,-10.16) AE2(-19.05,-10.16) AE3(-17.78,-10.16) AE4(-16.51,-10.16) AE5(-15.24,-10.16) AE29(15.24,-10.16) AE30(16.51,-10.16) AE31(17.78,-10.16) AE32(19.05,-10.16) AE33(20.32,-10.16) AF1(-20.32,-11.43) AF2(-19.05,-11.43) AF3(-17.78,-11.43) AF4(-16.51,-11.43) AF5(-15.24,-11.43) AF29(15.24,-11.43) AF30(16.51,-11.43) AF31(17.78,-11.43) AF32(19.05,-11.43) AF33(20.32,-11.43) AG1(-20.32,-12.7) AG2(-19.05,-12.7) AG3(-17.78,-12.7) AG4(-16.51,-12.7) AG5(-15.24,-12.7) AG29(15.24,-12.7) AG30(16.51,-12.7) AG31(17.78,-12.7) AG32(19.05,-12.7) AG33(20.32,-12.7) AH1(-20.32,-13.97) AH2(-19.05,-13.97) AH3(-17.78,-13.97) AH4(-16.51,-13.97) AH5(-15.24,-13.97) AH29(15.24,-13.97) AH30(16.51,-13.97) AH31(17.78,-13.97) AH32(19.05,-13.97) AH33(20.32,-13.97) AJ1(-20.32,-15.24) AJ2(-19.05,-15.24) AJ3(-17.78,-15.24) AJ4(-16.51,-15.24) AJ5(-15.24,-15.24) AJ6(-13.97,-15.24) AJ7(-12.7,-15.24) AJ8(-11.43,-15.24) AJ9(-10.16,-15.24) AJ10(-8.89,-15.24) AJ11(-7.62,-15.24) AJ12(-6.35,-15.24) AJ13(-5.08,-15.24) AJ14(-3.81,-15.24) AJ15(-2.54,-15.24) AJ16(-1.27,-15.24) AJ17(0,-15.24) AJ18(1.27,-15.24) AJ19(2.54,-15.24) AJ20(3.81,-15.24) AJ21(5.08,-15.24) AJ22(6.35,-15.24) AJ23(7.62,-15.24) AJ24(8.89,-15.24) AJ25(10.16,-15.24) AJ26(11.43,-15.24) AJ27(12.7,-15.24) AJ28(13.97,-15.24) AJ29(15.24,-15.24) AJ30(16.51,-15.24) AJ31(17.78,-15.24) AJ32(19.05,-15.24) AJ33(20.32,-15.24) AK1(-20.32,-16.51) AK2(-19.05,-16.51) AK3(-17.78,-16.51) AK4(-16.51,-16.51) AK5(-15.24,-16.51) AK6(-13.97,-16.51) AK7(-12.7,-16.51) AK8(-11.43,-16.51) AK9(-10.16,-16.51) AK10(-8.89,-16.51) AK11(-7.62,-16.51) AK12(-6.35,-16.51) AK13(-5.08,-16.51) AK14(-3.81,-16.51) AK15(-2.54,-16.51) AK16(-1.27,-16.51) AK17(0,-16.51) AK18(1.27,-16.51) AK19(2.54,-16.51) AK20(3.81,-16.51) AK21(5.08,-16.51) AK22(6.35,-16.51) AK23(7.62,-16.51) AK24(8.89,-16.51) AK25(10.16,-16.51) AK26(11.43,-16.51) AK27(12.7,-16.51) AK28(13.97,-16.51) AK29(15.24,-16.51) AK30(16.51,-16.51) AK31(17.78,-16.51) AK32(19.05,-16.51) AK33(20.32,-16.51) AL1(-20.32,-17.78) AL2(-19.05,-17.78) AL3(-17.78,-17.78) AL4(-16.51,-17.78) AL5(-15.24,-17.78) AL6(-13.97,-17.78) AL7(-12.7,-17.78) AL8(-11.43,-17.78) AL9(-10.16,-17.78) AL10(-8.89,-17.78) AL11(-7.62,-17.78) AL12(-6.35,-17.78) AL13(-5.08,-17.78) AL14(-3.81,-17.78) AL15(-2.54,-17.78) AL16(-1.27,-17.78) AL17(0,-17.78) AL18(1.27,-17.78) AL19(2.54,-17.78) AL20(3.81,-17.78) AL21(5.08,-17.78) AL22(6.35,-17.78) AL23(7.62,-17.78) AL24(8.89,-17.78) AL25(10.16,-17.78) AL26(11.43,-17.78) AL27(12.7,-17.78) AL28(13.97,-17.78) AL29(15.24,-17.78) AL30(16.51,-17.78) AL31(17.78,-17.78) AL32(19.05,-17.78) AL33(20.32,-17.78) AM1(-20.32,-19.05) AM2(-19.05,-19.05) AM3(-17.78,-19.05) AM4(-16.51,-19.05) AM5(-15.24,-19.05) AM6(-13.97,-19.05) AM7(-12.7,-19.05) AM8(-11.43,-19.05) AM9(-10.16,-19.05) AM10(-8.89,-19.05) AM11(-7.62,-19.05) AM12(-6.35,-19.05) AM13(-5.08,-19.05) AM14(-3.81,-19.05) AM15(-2.54,-19.05) AM16(-1.27,-19.05) AM17(0,-19.05) AM18(1.27,-19.05) AM19(2.54,-19.05) AM20(3.81,-19.05) AM21(5.08,-19.05) AM22(6.35,-19.05) AM23(7.62,-19.05) AM24(8.89,-19.05) AM25(10.16,-19.05) AM26(11.43,-19.05) AM27(12.7,-19.05) AM28(13.97,-19.05) AM29(15.24,-19.05) AM30(16.51,-19.05) AM31(17.78,-19.05) AM32(19.05,-19.05) AM33(20.32,-19.05) AN1(-20.32,-20.32) AN2(-19.05,-20.32) AN3(-17.78,-20.32) AN4(-16.51,-20.32) AN5(-15.24,-20.32) AN6(-13.97,-20.32) AN7(-12.7,-20.32) AN8(-11.43,-20.32) AN9(-10.16,-20.32) AN10(-8.89,-20.32) AN11(-7.62,-20.32) AN12(-6.35,-20.32) AN13(-5.08,-20.32) AN14(-3.81,-20.32) AN15(-2.54,-20.32) AN16(-1.27,-20.32) AN17(0,-20.32) AN18(1.27,-20.32) AN19(2.54,-20.32) AN20(3.81,-20.32) AN21(5.08,-20.32) AN22(6.35,-20.32) AN23(7.62,-20.32) AN24(8.89,-20.32) AN25(10.16,-20.32) AN26(11.43,-20.32) AN27(12.7,-20.32) AN28(13.97,-20.32) AN29(15.24,-20.32) AN30(16.51,-20.32) AN31(17.78,-20.32) AN32(19.05,-20.32) AN33(20.32,-20.32) B1(-20.32,19.05) B2(-19.05,19.05) B3(-17.78,19.05) B4(-16.51,19.05) B5(-15.24,19.05) B6(-13.97,19.05) B7(-12.7,19.05) B8(-11.43,19.05) B9(-10.16,19.05) B10(-8.89,19.05) B11(-7.62,19.05) B12(-6.35,19.05) B13(-5.08,19.05) B14(-3.81,19.05) B15(-2.54,19.05) B16(-1.27,19.05) B17(0,19.05) B18(1.27,19.05) B19(2.54,19.05) B20(3.81,19.05) B21(5.08,19.05) B22(6.35,19.05) B23(7.62,19.05) B24(8.89,19.05) B25(10.16,19.05) B26(11.43,19.05) B27(12.7,19.05) B28(13.97,19.05) B29(15.24,19.05) B30(16.51,19.05) B31(17.78,19.05) B32(19.05,19.05) B33(20.32,19.05) C1(-20.32,17.78) C2(-19.05,17.78) C3(-17.78,17.78) C4(-16.51,17.78) C5(-15.24,17.78) C6(-13.97,17.78) C7(-12.7,17.78) C8(-11.43,17.78) C9(-10.16,17.78) C10(-8.89,17.78) C11(-7.62,17.78) C12(-6.35,17.78) C13(-5.08,17.78) C14(-3.81,17.78) C15(-2.54,17.78) C16(-1.27,17.78) C17(0,17.78) C18(1.27,17.78) C19(2.54,17.78) C20(3.81,17.78) C21(5.08,17.78) C22(6.35,17.78) C23(7.62,17.78) C24(8.89,17.78) C25(10.16,17.78) C26(11.43,17.78) C27(12.7,17.78) C28(13.97,17.78) C29(15.24,17.78) C30(16.51,17.78) C31(17.78,17.78) C32(19.05,17.78) C33(20.32,17.78) D1(-20.32,16.51) D2(-19.05,16.51) D3(-17.78,16.51) D4(-16.51,16.51) D5(-15.24,16.51) D6(-13.97,16.51) D7(-12.7,16.51) D8(-11.43,16.51) D9(-10.16,16.51) D10(-8.89,16.51) D11(-7.62,16.51) D12(-6.35,16.51) D13(-5.08,16.51) D14(-3.81,16.51) D15(-2.54,16.51) D16(-1.27,16.51) D17(0,16.51) D18(1.27,16.51) D19(2.54,16.51) D20(3.81,16.51) D21(5.08,16.51) D22(6.35,16.51) D23(7.62,16.51) D24(8.89,16.51) D25(10.16,16.51) D26(11.43,16.51) D27(12.7,16.51) D28(13.97,16.51) D29(15.24,16.51) D30(16.51,16.51) D31(17.78,16.51) D32(19.05,16.51) D33(20.32,16.51) E1(-20.32,15.24) E2(-19.05,15.24) E3(-17.78,15.24) E4(-16.51,15.24) E5(-15.24,15.24) E6(-13.97,15.24) E7(-12.7,15.24) E8(-11.43,15.24) E9(-10.16,15.24) E10(-8.89,15.24) E11(-7.62,15.24) E12(-6.35,15.24) E13(-5.08,15.24) E14(-3.81,15.24) E15(-2.54,15.24) E16(-1.27,15.24) E17(0,15.24) E18(1.27,15.24) E19(2.54,15.24) E20(3.81,15.24) E21(5.08,15.24) E22(6.35,15.24) E23(7.62,15.24) E24(8.89,15.24) E25(10.16,15.24) E26(11.43,15.24) E27(12.7,15.24) E28(13.97,15.24) E29(15.24,15.24) E30(16.51,15.24) E31(17.78,15.24) E32(19.05,15.24) E33(20.32,15.24) F1(-20.32,13.97) F2(-19.05,13.97) F3(-17.78,13.97) F4(-16.51,13.97) F5(-15.24,13.97) F29(15.24,13.97) F30(16.51,13.97) F31(17.78,13.97) F32(19.05,13.97) F33(20.32,13.97) G1(-20.32,12.7) G2(-19.05,12.7) G3(-17.78,12.7) G4(-16.51,12.7) G5(-15.24,12.7) G29(15.24,12.7) G30(16.51,12.7) G31(17.78,12.7) G32(19.05,12.7) G33(20.32,12.7) H1(-20.32,11.43) H2(-19.05,11.43) H3(-17.78,11.43) H4(-16.51,11.43) H5(-15.24,11.43) H29(15.24,11.43) H30(16.51,11.43) H31(17.78,11.43) H32(19.05,11.43) H33(20.32,11.43) J1(-20.32,10.16) J2(-19.05,10.16) J3(-17.78,10.16) J4(-16.51,10.16) J5(-15.24,10.16) J29(15.24,10.16) J30(16.51,10.16) J31(17.78,10.16) J32(19.05,10.16) J33(20.32,10.16) K1(-20.32,8.89) K2(-19.05,8.89) K3(-17.78,8.89) K4(-16.51,8.89) K5(-15.24,8.89) K29(15.24,8.89) K30(16.51,8.89) K31(17.78,8.89) K32(19.05,8.89) K33(20.32,8.89) L1(-20.32,7.62) L2(-19.05,7.62) L3(-17.78,7.62) L4(-16.51,7.62) L5(-15.24,7.62) L29(15.24,7.62) L30(16.51,7.62) L31(17.78,7.62) L32(19.05,7.62) L33(20.32,7.62) M1(-20.32,6.35) M2(-19.05,6.35) M3(-17.78,6.35) M4(-16.51,6.35) M5(-15.24,6.35) M29(15.24,6.35) M30(16.51,6.35) M31(17.78,6.35) M32(19.05,6.35) M33(20.32,6.35) N1(-20.32,5.08) N2(-19.05,5.08) N3(-17.78,5.08) N4(-16.51,5.08) N5(-15.24,5.08) N29(15.24,5.08) N30(16.51,5.08) N31(17.78,5.08) N32(19.05,5.08) N33(20.32,5.08) P1(-20.32,3.81) P2(-19.05,3.81) P3(-17.78,3.81) P4(-16.51,3.81) P5(-15.24,3.81) P29(15.24,3.81) P30(16.51,3.81) P31(17.78,3.81) P32(19.05,3.81) P33(20.32,3.81) R1(-20.32,2.54) R2(-19.05,2.54) R3(-17.78,2.54) R4(-16.51,2.54) R5(-15.24,2.54) R29(15.24,2.54) R30(16.51,2.54) R31(17.78,2.54) R32(19.05,2.54) R33(20.32,2.54) T1(-20.32,1.27) T2(-19.05,1.27) T3(-17.78,1.27) T4(-16.51,1.27) T5(-15.24,1.27) T29(15.24,1.27) T30(16.51,1.27) T31(17.78,1.27) T32(19.05,1.27) T33(20.32,1.27) U1(-20.32,0) U2(-19.05,0) U3(-17.78,0) U4(-16.51,0) U5(-15.24,0) U29(15.24,0) U30(16.51,0) U31(17.78,0) U32(19.05,0) U33(20.32,0) V1(-20.32,-1.27) V2(-19.05,-1.27) V3(-17.78,-1.27) V4(-16.51,-1.27) V5(-15.24,-1.27) V29(15.24,-1.27) V30(16.51,-1.27) V31(17.78,-1.27) V32(19.05,-1.27) V33(20.32,-1.27) W1(-20.32,-2.54) W2(-19.05,-2.54) W3(-17.78,-2.54) W4(-16.51,-2.54) W5(-15.24,-2.54) W29(15.24,-2.54) W30(16.51,-2.54) W31(17.78,-2.54) W32(19.05,-2.54) W33(20.32,-2.54) Y1(-20.32,-3.81) Y2(-19.05,-3.81) Y3(-17.78,-3.81) Y4(-16.51,-3.81) Y5(-15.24,-3.81) Y29(15.24,-3.81) Y30(16.51,-3.81) Y31(17.78,-3.81) Y32(19.05,-3.81) Y33(20.32,-3.81)
Top Overlay:
  circle w0.25: c-21.9,20.32 r0.125
  region: -20.557,21.25 -21.25,20.557 -21.25,21.25
  lines w0.2: -21.25,20.557 -20.557,21.25 ; -21.25,-21.25 -21.25,21.25 21.25,21.25 21.25,-21.25 -21.25,-21.25
Mechanical 13:
  lines w0.1: -21.25,-21.25 -21.25,21.25 21.25,21.25 21.25,-21.25 -21.25,-21.25
Mechanical 15:
  lines w0.1: -0.5,0 0.5,0 ; 0,-0.5 0,0.5 ; -22.25,-22.25 -22.25,22.25 22.25,22.25 22.25,-22.25 -22.25,-22.25
3D body: height 5.35, standoff 0, extent -21.25,-21.25 21.25,21.25